# Altium integrated library DFR0299.IntLib: 1 symbol
Pins are listed as number, name and electrical type; pins without a type are passive.

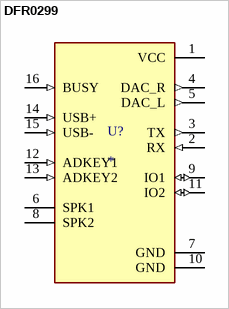
[diagram p0: symbol DFR0299]

## DFR0299
designator U?
- MP3 Player Audio Arduino Platform Evaluation Expansion Board; MF: DFRobot; MP: DFR0299; SnapEDA_Link: https://www.snapeda.com/parts/DFR0299/DFRobot/view-part/?ref=snap; Package: None; Value: *; Check_prices: https://www.snapeda.com/parts/DFR0299/DFRobot/view-part/?ref=eda
footprint MODULE_DFR0299
pins: 1 VCC (power), 2 RX (in), 3 TX (out), 4 DAC_R (out), 5 DAC_L (out), 6 SPK1, 7 GND (power), 8 SPK2, 9 IO1 (io), 10 GND (power), 11 IO2 (io), 12 ADKEY1 (in), 13 ADKEY2 (in), 14 USB+ (in), 15 USB- (in), 16 BUSY (in)